# Altium footprint library Chip-Resistor-10k.PcbLib: 1 footprints
Each footprint in its own frame and in the unit in brackets; x right, y up, seen from the top. Pads: shape width x height; smd on the part's side, far side on the other; paste and mask are expansions set on the pad; w line width, h text height; cw(c..) or ccw(c..) is an arc to the next point about the centre after c.
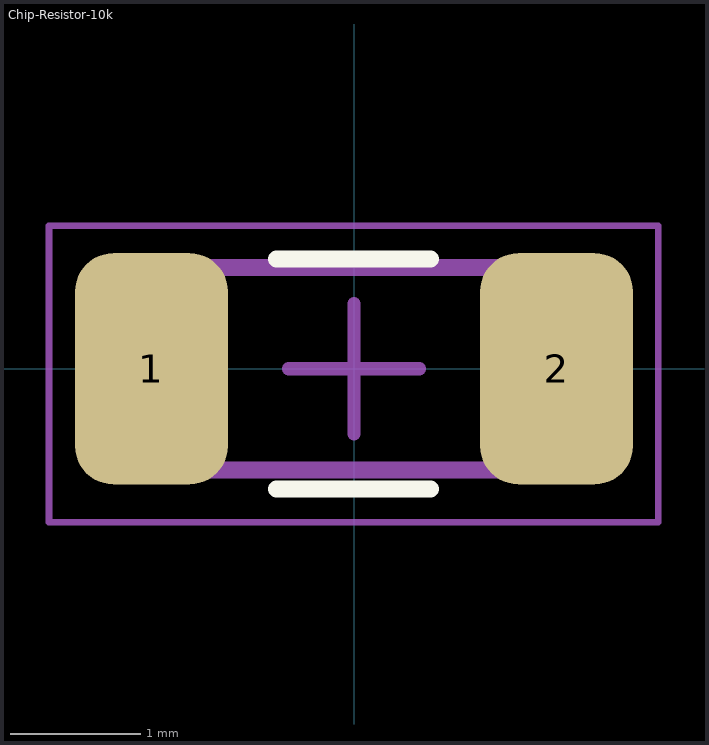
[diagram p0: the footprint, top view; thin cyan lines are the x and y axes]

## Chip-Resistor-10k [mm]
pads (2):
  rrect50% 1.17x1.77 smd: 1(-1.55,0) 2(1.55,0)
Top Overlay:
  lines w0.127: -0.593,-0.92 0.587,-0.92 ; -0.593,0.84 0.587,0.84
Top 3D Body:
  lines w0.127: -1.55,-0.775 -1.55,0.775 1.55,0.775 1.55,-0.775 -1.55,-0.775
Top Courtyard:
  lines w0.05: -2.334,-1.175 2.328,-1.175 2.328,1.095 -2.334,1.095 -2.334,-1.175
  lines w0.1: -0.5,0 0.5,0 ; 0,-0.5 0,0.5
Top Designator (Mech29):
  text ".Designator" at 0.267,-3.999 h0.8
3D body "step_temp.STEP": height 0.75, standoff 0, extent -1.603,-0.84 1.597,0.76